# Altium footprint library D.PcbLib: 22 footprints (part 2 of 2)
Each footprint in its own frame and in the unit in brackets; x right, y up, seen from the top. Pads: shape width x height; smd on the part's side, far side on the other; paste and mask are expansions set on the pad; w line width, h text height; cw(c..) or ccw(c..) is an arc to the next point about the centre after c.
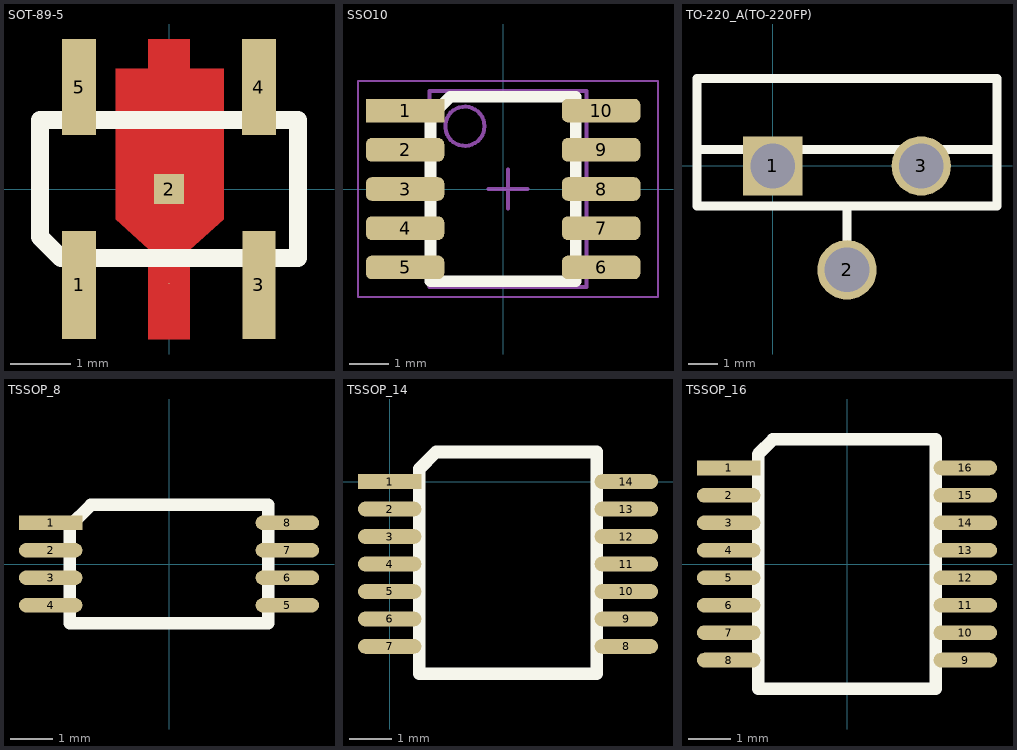
[diagram p1: the footprints below, top view; thin cyan lines are the x and y axes]

## SOT-89-5 [mm]
height 1.6
pads (6):
  rect 0.57x1.8 smd mask+0.1: 1(-1.5,-1.6)
  round 0 smd: 2(0,-1.575)
  rect 0.5x0.5 smd paste+0 mask+0: 2(0,0)
  rect 0.55x1.8 smd mask+0.1: 3(1.5,-1.6)
  rect 0.57x1.6 smd mask+0.1: 4(1.5,1.7) 5(-1.5,1.7)
Top Layer:
  region: -0.891,2 -0.891,-0.502 -0.35,-0.998 -0.35,-2.5 0.35,-2.5 0.35,-1.014 0.909,-0.502 0.909,2 0.35,2 0.35,2.5 -0.35,2.5 -0.35,2
Top Overlay:
  lines w0.3: -2.15,-0.8 -1.8,-1.15 2.15,-1.15 2.15,1.15 -2.15,1.15 -2.15,-0.8
3D body: height 1.6, standoff -0.05, extent -2.3,-2.3 2.3,2.15

## SSO10 [mm]
height 1.75
pads (10):
  rect 2x0.6 smd mask+0.1: 1(-2.5,2)
  rrect50% 2x0.6 smd mask+0.1: 2(-2.5,1) 3(-2.5,0) 4(-2.5,-1) 5(-2.5,-2) 6(2.5,-2) 7(2.5,-1) 8(2.5,0) 9(2.5,1) 10(2.5,2)
Top Overlay:
  lines w0.3: -1.85,-2.35 -1.85,1.85 -1.35,2.35 1.85,2.35 1.85,-2.35 -1.85,-2.35
Mechanical 13:
  circle w0.1: c-0.975,1.6 r0.5
  lines w0.1: -1.875,-2.5 -1.875,2.5 2.125,2.5 2.125,-2.5 -1.875,-2.5
Mechanical 15:
  lines w0.05: -3.7,-2.75 -3.7,2.75 3.95,2.75 3.95,-2.75 -3.7,-2.75
  lines w0.1: -0.375,0 0.625,0 ; 0.125,-0.5 0.125,0.5
3D body: height 1.75, standoff 0, extent -3.1,-2.5 3.1,2.5

## TO-220_A(TO-220FP) [mm]
height 20
pads (3):
  rect 2x2 hole 1.5: 1(0,0)
  round 2 hole 1.5: 2(2.5,-3.5) 3(5,0)
Top Overlay:
  lines w0.3: -2.55,0.55 7.55,0.55 ; 2.5,-3 2.5,-1.35 ; -2.55,-1.35 7.55,-1.35 7.55,2.95 -2.55,2.95 -2.55,-1.35
3D body: height 24, standoff -3.5, extent -2.7,-3.85 7.7,3.1

## TSSOP_8 [mm]
height 1.2
pads (8):
  rect 1.5x0.35 smd: 1(-2.8,0.975)
  oval 1.5x0.35 smd: 2(-2.8,0.325) 3(-2.8,-0.325) 4(-2.8,-0.975) 5(2.8,-0.975) 6(2.8,-0.325) 7(2.8,0.325) 8(2.8,0.975)
Top Overlay:
  lines w0.3: -2.35,-1.4 2.35,-1.4 2.35,1.4 -1.85,1.4 -2.35,0.9 -2.35,-1.4
3D body: height 1.2, standoff 0, extent -3.3,-1.55 3.3,1.55

## TSSOP_14 [mm]
height 1.2
pads (14):
  rect 1.5x0.35 smd: 1(0,0)
  oval 1.5x0.35 smd: 2(0,-0.65) 3(0,-1.3) 4(0,-1.95) 5(0,-2.6) 6(0,-3.25) 7(0,-3.9) 8(5.6,-3.9) 9(5.6,-3.25) 10(5.6,-2.6) 11(5.6,-1.95) 12(5.6,-1.3) 13(5.6,-0.65) 14(5.6,0)
Top Overlay:
  lines w0.3: 0.7,-4.55 4.9,-4.55 4.9,0.7 1.1,0.7 0.7,0.3 0.7,-4.55
3D body: height 1.2, standoff 0, extent -0.5,-4.725 6.1,0.825

## TSSOP_16 [mm]
height 1.2
pads (16):
  rect 1.5x0.35 smd: 1(-2.8,2.275)
  oval 1.5x0.35 smd: 2(-2.8,1.625) 3(-2.8,0.975) 4(-2.8,0.325) 5(-2.8,-0.325) 6(-2.8,-0.975) 7(-2.8,-1.625) 8(-2.8,-2.275) 9(2.8,-2.275) 10(2.8,-1.625) 11(2.8,-0.975) 12(2.8,-0.325) 13(2.8,0.325) 14(2.8,0.975) 15(2.8,1.625) 16(2.8,2.275)
Top Overlay:
  lines w0.3: -2.1,-2.95 -2.1,2.6 -1.75,2.95 2.1,2.95 2.1,-2.95 -2.1,-2.95
3D body: height 1.2, standoff 0, extent -3.3,-3.1 3.3,3.1